# Altium footprint library Components - 01.03.25 - 23.47.PcbLib: 4 footprints
Each footprint in its own frame and in the unit in brackets; x right, y up, seen from the top. Pads: shape width x height; smd on the part's side, far side on the other; paste and mask are expansions set on the pad; w line width, h text height; cw(c..) or ccw(c..) is an arc to the next point about the centre after c.
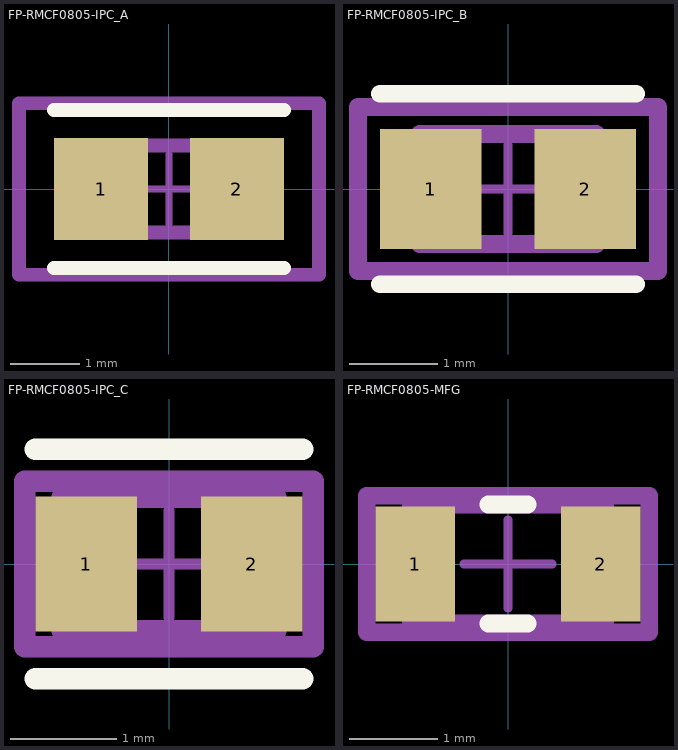
[diagram p0: the footprints below, top view; thin cyan lines are the x and y axes]

## FP-RMCF0805-IPC_A [mm]
pads (2):
  rect 1.355x1.462 smd paste+0 mask+0: 1(-0.976,0) 2(0.976,0)
Top Overlay:
  lines w0.2: -1.653,-1.131 1.653,-1.131 ; -1.653,1.131 1.653,1.131
Top Assembly:
  lines w0.2: -2.153,-1.231 2.153,-1.231 2.153,1.231 -2.153,1.231 -2.153,-1.231
  text ".Designator" at 0,0.187 h1
Top 3D Body:
  lines w0.2: -1,-0.625 1,-0.625 1,0.625 -1,0.625 -1,-0.625
Top Courtyard:
  lines w0.2: -2.153,-1.231 2.153,-1.231 2.153,1.231 -2.153,1.231 -2.153,-1.231
Top Component Center:
  lines w0.1: -0.5,0 0.5,0 ; 0,-0.5 0,0.5
3D body "Res_Stackpole_Electronics_RMCF0805JT220K_eec.STEP": height 0.25, standoff 0, extent -2.153,-1.231 2.153,1.231

## FP-RMCF0805-IPC_B [mm]
pads (2):
  rect 1.155x1.362 smd paste+0 mask+0: 1(-0.876,0) 2(0.876,0)
Top Overlay:
  lines w0.2: -1.453,-1.081 1.453,-1.081 ; -1.453,1.081 1.453,1.081
Top Assembly:
  lines w0.2: -1.703,-0.931 1.703,-0.931 1.703,0.931 -1.703,0.931 -1.703,-0.931
  text ".Designator" at 0,0.187 h1
Top 3D Body:
  lines w0.2: -1,-0.625 1,-0.625 1,0.625 -1,0.625 -1,-0.625
Top Courtyard:
  lines w0.2: -1.703,-0.931 1.703,-0.931 1.703,0.931 -1.703,0.931 -1.703,-0.931
Top Component Center:
  lines w0.1: -0.5,0 0.5,0 ; 0,-0.5 0,0.5
3D body "Res_Stackpole_Electronics_RMCF0805JT220K_eec.STEP": height 0.25, standoff 0, extent -1.703,-0.931 1.703,0.931

## FP-RMCF0805-IPC_C [mm]
pads (2):
  rect 0.955x1.262 smd paste+0 mask+0: 1(-0.776,0) 2(0.776,0)
Top Overlay:
  lines w0.2: -1.253,-1.075 1.253,-1.075 ; -1.253,1.075 1.253,1.075
Top Assembly:
  lines w0.2: -1.353,-0.775 1.353,-0.775 1.353,0.775 -1.353,0.775 -1.353,-0.775
  text ".Designator" at 0,0.187 h1
Top 3D Body:
  lines w0.2: -1,-0.625 1,-0.625 1,0.625 -1,0.625 -1,-0.625
Top Courtyard:
  lines w0.2: -1.353,-0.775 1.353,-0.775 1.353,0.775 -1.353,0.775 -1.353,-0.775
Top Component Center:
  lines w0.1: -0.5,0 0.5,0 ; 0,-0.5 0,0.5
3D body "Res_Stackpole_Electronics_RMCF0805JT220K_eec.STEP": height 0.25, standoff 0, extent -1.353,-0.775 1.353,0.775

## FP-RMCF0805-MFG [mm]
pads (2):
  rect 0.9x1.3 smd paste+0 mask+0: 1(-1.05,0) 2(1.05,0)
Top Overlay:
  lines w0.2: -0.225,-0.675 0.225,-0.675 ; -0.225,0.675 0.225,0.675
Top Assembly:
  lines w0.2: -1.6,-0.775 1.6,-0.775 1.6,0.775 -1.6,0.775 -1.6,-0.775
  text ".Designator" at 0,0.187 h1
Top 3D Body:
  lines w0.2: -1.1,-0.675 1.1,-0.675 1.1,0.675 -1.1,0.675 -1.1,-0.675
Top Courtyard:
  lines w0.2: -1.6,-0.775 1.6,-0.775 1.6,0.775 -1.6,0.775 -1.6,-0.775
Top Component Center:
  lines w0.1: -0.5,0 0.5,0 ; 0,-0.5 0,0.5
3D body "Res_Stackpole_Electronics_RMCF0805JT220K_eec.STEP": height 0.25, standoff 0, extent -1.6,-0.775 1.6,0.775